# EAGLE library part POLOLU_12V15ASTEPDOWN (library POWER_DISTRO)
Pololu 12V 15A Step Down D24V150F12
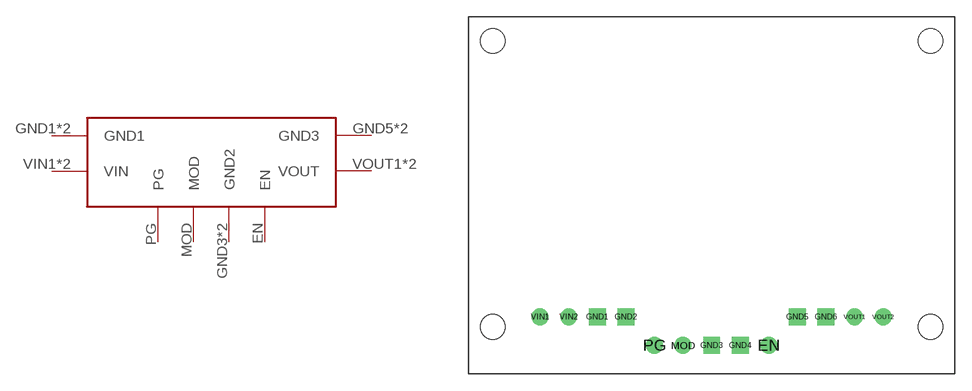
[diagram p1: symbol with the pads of 3X4PIN_REG; footprint 3X4PIN_REG]

Designator prefix -

## POLOLU_12V15ASTEPDOWN  [3X4PIN_REG]
EN  EN
GND1  GND1
GND2  GND1
GND3  GND2
GND4  GND2
GND5  GND3
GND6  GND3
MOD  MOD
PG  PG
VIN1  VIN
VIN2  VIN
VOUT1  VOUT
VOUT2  VOUT

## Footprint 3X4PIN_REG (pad centres in mm)
3x4PIN_REG 24-12V REG
drill 1: EN 26.67,2.54; MOD 19.05,2.54; PG 16.51,2.54; VIN1 6.35,5.08; VIN2 8.89,5.08; VOUT1 34.29,5.08; VOUT2 36.83,5.08
drill 1 square: GND1 11.43,5.08; GND2 13.97,5.08; GND3 21.59,2.54; GND4 24.13,2.54; GND5 29.21,5.08; GND6 31.75,5.08
hole 2.184 at 2.159,4.191
hole 2.184 at 2.159,29.591
hole 2.184 at 41.021,29.591
hole 2.184 at 41.021,4.191